# Altium footprint library CONNECTORS.PcbLib: 13 footprints
Each footprint in its own frame and in the unit in brackets; x right, y up, seen from the top. Pads: shape width x height; smd on the part's side, far side on the other; paste and mask are expansions set on the pad; w line width, h text height; cw(c..) or ccw(c..) is an arc to the next point about the centre after c.
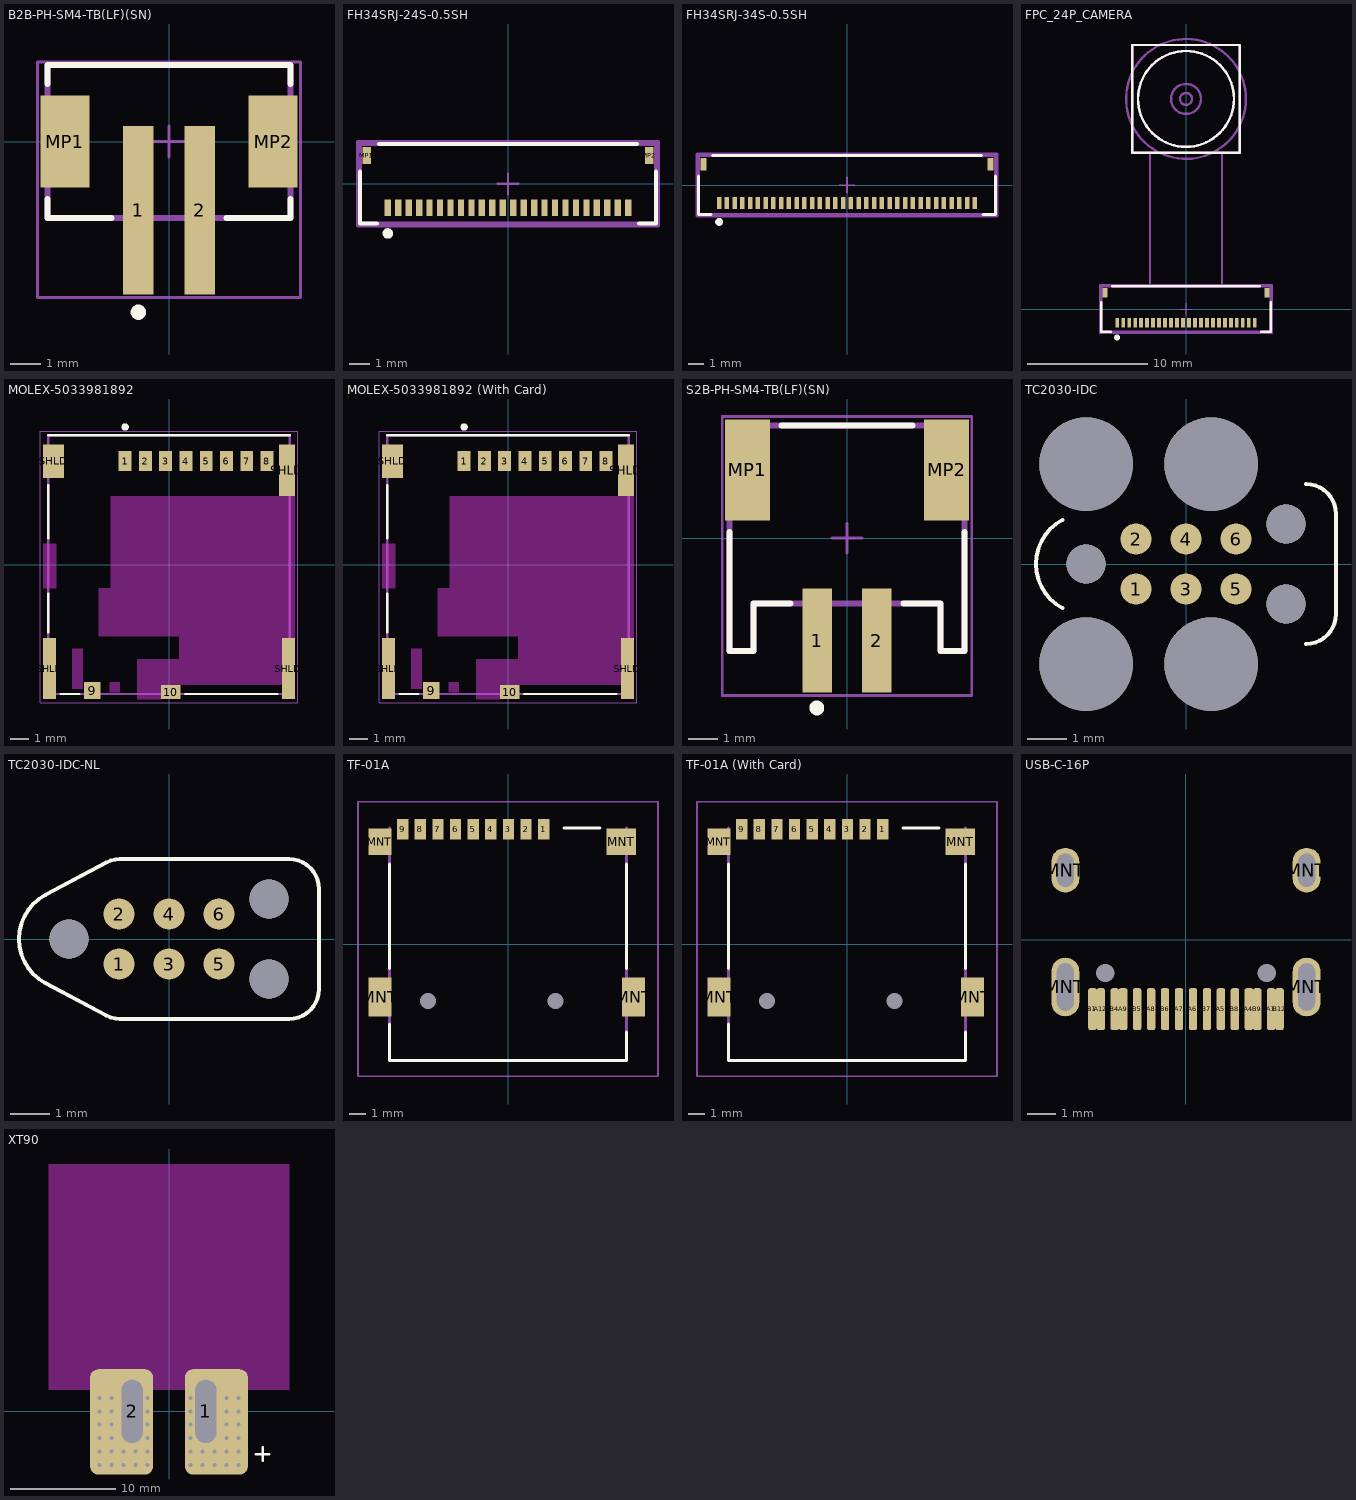
[diagram p0: the footprints below, top view; thin cyan lines are the x and y axes]

## B2B-PH-SM4-TB(LF)(SN) [mm]
pads (4):
  rect 1x5.5 smd paste+0: 1(-1,-2.25) 2(1,-2.25)
  rect 1.6x3 smd paste+0: MP1(-3.4,0) MP2(3.4,0)
Top Overlay:
  circle w0.25: c-1,-5.575 r0.125
  lines w0.2: -3.975,-1.875 -3.975,-2.5 -1.875,-2.5 ; -3.975,1.875 -3.975,2.5 3.975,2.5 3.975,1.875 ; 1.875,-2.5 3.975,-2.5 3.975,-1.875
Top 3D Body:
  lines w0.2: -3.975,-2.5 3.975,-2.5 3.975,2.5 -3.975,2.5 -3.975,-2.5
Top Courtyard:
  lines w0.1: -4.3,-5.1 4.3,-5.1 4.3,2.6 -4.3,2.6 -4.3,-5.1
Top Component Center:
  lines w0.1: -0.5,0 0.5,0 ; 0,-0.5 0,0.5
3D body "B2B-PH-SM4-TB.step": height 6.6, standoff 0, extent -3.975,-4.5 3.975,2.5

## FH34SRJ-24S-0.5SH [mm] "FH34SRJ-24S-0.5SH"
pads (26):
  rect 0.3x0.8 smd paste-1000 mask+0: 1(-5.75,-1.15) 2(-5.25,-1.15) 3(-4.75,-1.15) 4(-4.25,-1.15) 5(-3.75,-1.15) 6(-3.25,-1.15) 7(-2.75,-1.15) 8(-2.25,-1.15) 9(-1.75,-1.15) 10(-1.25,-1.15) 11(-0.75,-1.15) 12(-0.25,-1.15) 13(0.25,-1.15) 14(0.75,-1.15) 15(1.25,-1.15) 16(1.75,-1.15) 17(2.25,-1.15) 18(2.75,-1.15) 19(3.25,-1.15) 20(3.75,-1.15) 21(4.25,-1.15) 22(4.75,-1.15) 23(5.25,-1.15) 24(5.75,-1.15)
  rect 0.4x0.8 smd paste+0 mask+0: MP1(-6.75,1.35) MP2(6.75,1.35)
Top Overlay:
  circle w0.25: c-5.75,-2.375 r0.125
  lines w0.2: -7.075,0.575 -7.075,-1.9 -6.275,-1.9 ; -6.175,1.9 6.175,1.9 ; 6.275,-1.9 7.075,-1.9 7.075,0.575
Top Paste:
  region: 5.875,-0.9 5.625,-0.9 5.625,-1.55 5.875,-1.55
  region: 5.375,-0.9 5.125,-0.9 5.125,-1.55 5.375,-1.55
  region: 4.875,-0.9 4.625,-0.9 4.625,-1.55 4.875,-1.55
  region: 4.375,-0.9 4.125,-0.9 4.125,-1.55 4.375,-1.55
  region: 3.875,-0.9 3.625,-0.9 3.625,-1.55 3.875,-1.55
  region: 3.375,-0.9 3.125,-0.9 3.125,-1.55 3.375,-1.55
  region: 2.875,-0.9 2.625,-0.9 2.625,-1.55 2.875,-1.55
  region: 2.375,-0.9 2.125,-0.9 2.125,-1.55 2.375,-1.55
  region: 1.875,-0.9 1.625,-0.9 1.625,-1.55 1.875,-1.55
  region: 1.375,-0.9 1.125,-0.9 1.125,-1.55 1.375,-1.55
  region: 0.875,-0.9 0.625,-0.9 0.625,-1.55 0.875,-1.55
  region: 0.375,-0.9 0.125,-0.9 0.125,-1.55 0.375,-1.55
  region: -0.125,-0.9 -0.375,-0.9 -0.375,-1.55 -0.125,-1.55
  region: -0.625,-0.9 -0.875,-0.9 -0.875,-1.55 -0.625,-1.55
  region: -1.125,-0.9 -1.375,-0.9 -1.375,-1.55 -1.125,-1.55
  region: -1.625,-0.9 -1.875,-0.9 -1.875,-1.55 -1.625,-1.55
  region: -2.125,-0.9 -2.375,-0.9 -2.375,-1.55 -2.125,-1.55
  region: -2.625,-0.9 -2.875,-0.9 -2.875,-1.55 -2.625,-1.55
  region: -3.125,-0.9 -3.375,-0.9 -3.375,-1.55 -3.125,-1.55
  region: -3.625,-0.9 -3.875,-0.9 -3.875,-1.55 -3.625,-1.55
  region: -4.125,-0.9 -4.375,-0.9 -4.375,-1.55 -4.125,-1.55
  region: -4.625,-0.9 -4.875,-0.9 -4.875,-1.55 -4.625,-1.55
  region: -5.125,-0.9 -5.375,-0.9 -5.375,-1.55 -5.125,-1.55
  region: -5.625,-0.9 -5.875,-0.9 -5.875,-1.55 -5.625,-1.55
Top Assembly:
  lines w0.2: -7.175,-2 7.175,-2 7.175,2 -7.175,2 -7.175,-2
Top 3D Body:
  lines w0.2: -7.075,-1.9 7.075,-1.9 7.075,1.9 -7.075,1.9 -7.075,-1.9
Top Courtyard:
  lines w0.2: -7.175,-2 7.175,-2 7.175,2 -7.175,2 -7.175,-2
Top Component Center:
  lines w0.1: -0.5,0 0.5,0 ; 0,-0.5 0,0.5
3D body "Conn_Hirose_FH34SRJ-24S-0_5SH_99_eec.STEP": height 0.25, standoff 0, extent -7.175,-2 7.175,2

## FH34SRJ-34S-0.5SH [mm] "FH34SRJ-34S-0.5SH"
pads (36):
  rect 0.3x0.8 smd paste-1000 mask+0: 1(-8.25,-1.15) 2(-7.75,-1.15) 3(-7.25,-1.15) 4(-6.75,-1.15) 5(-6.25,-1.15) 6(-5.75,-1.15) 7(-5.25,-1.15) 8(-4.75,-1.15) 9(-4.25,-1.15) 10(-3.75,-1.15) 11(-3.25,-1.15) 12(-2.75,-1.15) 13(-2.25,-1.15) 14(-1.75,-1.15) 15(-1.25,-1.15) 16(-0.75,-1.15) 17(-0.25,-1.15) 18(0.25,-1.15) 19(0.75,-1.15) 20(1.25,-1.15) 21(1.75,-1.15) 22(2.25,-1.15) 23(2.75,-1.15) 24(3.25,-1.15) 25(3.75,-1.15) 26(4.25,-1.15) 27(4.75,-1.15) 28(5.25,-1.15) 29(5.75,-1.15) 30(6.25,-1.15) 31(6.75,-1.15) 32(7.25,-1.15) 33(7.75,-1.15) 34(8.25,-1.15)
  rect 0.4x0.8 smd paste+0 mask+0: MP1(-9.25,1.35) MP2(9.25,1.35)
Top Overlay:
  circle w0.25: c-8.25,-2.375 r0.125
  lines w0.2: -9.575,0.575 -9.575,-1.9 -8.775,-1.9 ; -8.675,1.9 8.675,1.9 ; 8.775,-1.9 9.575,-1.9 9.575,0.575
Top Paste:
  region: 8.375,-0.9 8.125,-0.9 8.125,-1.55 8.375,-1.55
  region: 7.875,-0.9 7.625,-0.9 7.625,-1.55 7.875,-1.55
  region: 7.375,-0.9 7.125,-0.9 7.125,-1.55 7.375,-1.55
  region: 6.875,-0.9 6.625,-0.9 6.625,-1.55 6.875,-1.55
  region: 6.375,-0.9 6.125,-0.9 6.125,-1.55 6.375,-1.55
  region: 5.875,-0.9 5.625,-0.9 5.625,-1.55 5.875,-1.55
  region: 5.375,-0.9 5.125,-0.9 5.125,-1.55 5.375,-1.55
  region: 4.875,-0.9 4.625,-0.9 4.625,-1.55 4.875,-1.55
  region: 4.375,-0.9 4.125,-0.9 4.125,-1.55 4.375,-1.55
  region: 3.875,-0.9 3.625,-0.9 3.625,-1.55 3.875,-1.55
  region: 3.375,-0.9 3.125,-0.9 3.125,-1.55 3.375,-1.55
  region: 2.875,-0.9 2.625,-0.9 2.625,-1.55 2.875,-1.55
  region: 2.375,-0.9 2.125,-0.9 2.125,-1.55 2.375,-1.55
  region: 1.875,-0.9 1.625,-0.9 1.625,-1.55 1.875,-1.55
  region: 1.375,-0.9 1.125,-0.9 1.125,-1.55 1.375,-1.55
  region: 0.875,-0.9 0.625,-0.9 0.625,-1.55 0.875,-1.55
  region: 0.375,-0.9 0.125,-0.9 0.125,-1.55 0.375,-1.55
  region: -0.125,-0.9 -0.375,-0.9 -0.375,-1.55 -0.125,-1.55
  region: -0.625,-0.9 -0.875,-0.9 -0.875,-1.55 -0.625,-1.55
  region: -1.125,-0.9 -1.375,-0.9 -1.375,-1.55 -1.125,-1.55
  region: -1.625,-0.9 -1.875,-0.9 -1.875,-1.55 -1.625,-1.55
  region: -2.125,-0.9 -2.375,-0.9 -2.375,-1.55 -2.125,-1.55
  region: -2.625,-0.9 -2.875,-0.9 -2.875,-1.55 -2.625,-1.55
  region: -3.125,-0.9 -3.375,-0.9 -3.375,-1.55 -3.125,-1.55
  region: -3.625,-0.9 -3.875,-0.9 -3.875,-1.55 -3.625,-1.55
  region: -4.125,-0.9 -4.375,-0.9 -4.375,-1.55 -4.125,-1.55
  region: -4.625,-0.9 -4.875,-0.9 -4.875,-1.55 -4.625,-1.55
  region: -5.125,-0.9 -5.375,-0.9 -5.375,-1.55 -5.125,-1.55
  region: -5.625,-0.9 -5.875,-0.9 -5.875,-1.55 -5.625,-1.55
  region: -6.125,-0.9 -6.375,-0.9 -6.375,-1.55 -6.125,-1.55
  region: -6.625,-0.9 -6.875,-0.9 -6.875,-1.55 -6.625,-1.55
  region: -7.125,-0.9 -7.375,-0.9 -7.375,-1.55 -7.125,-1.55
  region: -7.625,-0.9 -7.875,-0.9 -7.875,-1.55 -7.625,-1.55
  region: -8.125,-0.9 -8.375,-0.9 -8.375,-1.55 -8.125,-1.55
Top Assembly:
  lines w0.2: -9.675,-2 9.675,-2 9.675,2 -9.675,2 -9.675,-2
Top 3D Body:
  lines w0.2: -9.575,-1.9 9.575,-1.9 9.575,1.9 -9.575,1.9 -9.575,-1.9
Top Courtyard:
  lines w0.2: -9.675,-2 9.675,-2 9.675,2 -9.675,2 -9.675,-2
Top Component Center:
  lines w0.1: -0.5,0 0.5,0 ; 0,-0.5 0,0.5
3D body "Conn_Hirose_FH34SRJ-34S-0_5SH_99_eec.STEP": height 0.25, standoff 0, extent -9.675,-2 9.675,2

## FPC_24P_CAMERA [mm] "FH34SRJ-24S-0.5SH"
pads (26):
  rect 0.3x0.8 smd paste-1000 mask+0: 1(-5.75,-1.15) 2(-5.25,-1.15) 3(-4.75,-1.15) 4(-4.25,-1.15) 5(-3.75,-1.15) 6(-3.25,-1.15) 7(-2.75,-1.15) 8(-2.25,-1.15) 9(-1.75,-1.15) 10(-1.25,-1.15) 11(-0.75,-1.15) 12(-0.25,-1.15) 13(0.25,-1.15) 14(0.75,-1.15) 15(1.25,-1.15) 16(1.75,-1.15) 17(2.25,-1.15) 18(2.75,-1.15) 19(3.25,-1.15) 20(3.75,-1.15) 21(4.25,-1.15) 22(4.75,-1.15) 23(5.25,-1.15) 24(5.75,-1.15)
  rect 0.4x0.8 smd paste+0 mask+0: MP1(-6.75,1.35) MP2(6.75,1.35)
Top Overlay:
  circle w0.2: c0,17.526 r4
  circle w0.25: c-5.75,-2.375 r0.125
  lines w0.2: -7.075,0.575 -7.075,-1.9 -6.275,-1.9 ; -6.175,1.9 6.175,1.9 ; 6.275,-1.9 7.075,-1.9 7.075,0.575 ; -4.5,13.026 4.5,13.026 4.5,22.026 -4.5,22.026 -4.5,13.026
Top Paste:
  region: -5.625,-0.9 -5.875,-0.9 -5.875,-1.55 -5.625,-1.55
  region: -5.125,-0.9 -5.375,-0.9 -5.375,-1.55 -5.125,-1.55
  region: -4.625,-0.9 -4.875,-0.9 -4.875,-1.55 -4.625,-1.55
  region: -4.125,-0.9 -4.375,-0.9 -4.375,-1.55 -4.125,-1.55
  region: -3.625,-0.9 -3.875,-0.9 -3.875,-1.55 -3.625,-1.55
  region: -3.125,-0.9 -3.375,-0.9 -3.375,-1.55 -3.125,-1.55
  region: -2.625,-0.9 -2.875,-0.9 -2.875,-1.55 -2.625,-1.55
  region: -2.125,-0.9 -2.375,-0.9 -2.375,-1.55 -2.125,-1.55
  region: -1.625,-0.9 -1.875,-0.9 -1.875,-1.55 -1.625,-1.55
  region: -1.125,-0.9 -1.375,-0.9 -1.375,-1.55 -1.125,-1.55
  region: -0.625,-0.9 -0.875,-0.9 -0.875,-1.55 -0.625,-1.55
  region: -0.125,-0.9 -0.375,-0.9 -0.375,-1.55 -0.125,-1.55
  region: 0.375,-0.9 0.125,-0.9 0.125,-1.55 0.375,-1.55
  region: 0.875,-0.9 0.625,-0.9 0.625,-1.55 0.875,-1.55
  region: 1.375,-0.9 1.125,-0.9 1.125,-1.55 1.375,-1.55
  region: 1.875,-0.9 1.625,-0.9 1.625,-1.55 1.875,-1.55
  region: 2.375,-0.9 2.125,-0.9 2.125,-1.55 2.375,-1.55
  region: 2.875,-0.9 2.625,-0.9 2.625,-1.55 2.875,-1.55
  region: 3.375,-0.9 3.125,-0.9 3.125,-1.55 3.375,-1.55
  region: 3.875,-0.9 3.625,-0.9 3.625,-1.55 3.875,-1.55
  region: 4.375,-0.9 4.125,-0.9 4.125,-1.55 4.375,-1.55
  region: 4.875,-0.9 4.625,-0.9 4.625,-1.55 4.875,-1.55
  region: 5.375,-0.9 5.125,-0.9 5.125,-1.55 5.375,-1.55
  region: 5.875,-0.9 5.625,-0.9 5.625,-1.55 5.875,-1.55
Top Assembly:
  lines w0.2: -7.175,-2 -7.175,2 7.175,2 7.175,-2 -7.175,-2
Top 3D Body:
  circle w0.2: c0,17.526 r4
  circle w0.2: c0,17.526 r0.5
  circle w0.2: c0,17.526 r1.25
  circle w0.2: c0,17.526 r5
  lines w0.2: -3,1.9 -3,13.009 ; 3,1.9 3,13.009 ; -7.075,-1.9 -7.075,1.9 7.075,1.9 7.075,-1.9 -7.075,-1.9 ; -4.5,13.026 -4.5,22.026 4.5,22.026 4.5,13.026 -4.5,13.026
Top Courtyard:
  lines w0.2: -7.175,-2 -7.175,2 7.175,2 7.175,-2 -7.175,-2
Top Component Center:
  lines w0.1: -0.5,0 0.5,0 ; 0,-0.5 0,0.5
3D body "TY-OV2_v6.step": height 6.16, standoff 0.4, extent -6.25,-0.4 6.25,21.6
3D body "Conn_Hirose_FH34SRJ-24S-0_5SH_99_eec.STEP": height 0.25, standoff 0, extent -7.175,-2 7.175,2

## MOLEX-5033981892 [mm]
pads (14):
  rect 0.7x1.1 smd: 1(-2.38,5.625) 2(-1.28,5.625) 3(-0.18,5.625) 4(0.92,5.625) 5(2.02,5.625) 6(3.12,5.625) 7(4.22,5.625) 8(5.32,5.625)
  rect 0.9x0.93 smd: 9(-4.17,-6.84)
  rect 1.05x0.78 smd: 10(0.095,-6.915)
  rect 0.7x3.33 smd: SHLD(-6.48,-5.64) SHLD(6.48,-5.64)
  rect 1.14x1.83 smd: SHLD(-6.26,5.61)
  rect 0.86x2.8 smd: SHLD(6.4,5.125)
Top Overlay:
  circle w0.2: c-2.38,7.475 r0.1
  lines w0.127: -6.55,-3.675 -6.55,-1.575 ; -6.55,1.425 -6.55,4.325 ; -6.55,7.025 6.55,7.025 ; -5.876,-7.025 -4.874,-7.025 ; 0.874,-7.025 5.876,-7.025
Keep-Out Layer:
  region: 6.83,-3.975 6.13,-3.975 6.13,-6.525 -0.43,-6.525 -0.43,-7.305 -1.73,-7.305 -1.73,-5.125 0.57,-5.125 0.57,-3.875 -3.82,-3.875 -3.82,-1.275 -3.17,-1.275 -3.17,3.725 6.83,3.725
  region: -6.13,-1.276 -6.836,-1.276 -6.836,1.125 -6.13,1.125
  region: -4.685,-6.738 -5.245,-6.738 -5.245,-4.575 -4.685,-4.575
  region: -2.67,-6.93 -3.223,-6.93 -3.223,-6.375 -2.67,-6.375
Top 3D Body:
  circle w0.2: c-2.38,5.775 r0.1
  lines w0.127: -6.55,-7.025 6.55,-7.025 6.55,7.025 -6.55,7.025 -6.55,-7.025
Top Courtyard:
  lines w0.05: -7,-7.5 7,-7.5 7,7.25 -7,7.25 -7,-7.5
3D body "MOLEX-5033981892.step": height 1.4, standoff 0, extent -6.55,-7.025 6.55,7.045

## MOLEX-5033981892 (With Card) [mm]
pads (14):
  rect 0.7x1.1 smd: 1(-2.38,5.625) 2(-1.28,5.625) 3(-0.18,5.625) 4(0.92,5.625) 5(2.02,5.625) 6(3.12,5.625) 7(4.22,5.625) 8(5.32,5.625)
  rect 0.9x0.93 smd: 9(-4.17,-6.84)
  rect 1.05x0.78 smd: 10(0.095,-6.915)
  rect 0.7x3.33 smd: SHLD(-6.48,-5.64) SHLD(6.48,-5.64)
  rect 1.14x1.83 smd: SHLD(-6.26,5.61)
  rect 0.86x2.8 smd: SHLD(6.4,5.125)
Top Overlay:
  circle w0.2: c-2.38,7.475 r0.1
  lines w0.127: -6.55,-3.675 -6.55,-1.575 ; -6.55,1.425 -6.55,4.325 ; -6.55,7.025 6.55,7.025 ; -5.876,-7.025 -4.874,-7.025 ; 0.874,-7.025 5.876,-7.025
Keep-Out Layer:
  region: -2.67,-6.93 -3.223,-6.93 -3.223,-6.375 -2.67,-6.375
  region: -4.685,-6.738 -5.245,-6.738 -5.245,-4.575 -4.685,-4.575
  region: -6.13,-1.276 -6.836,-1.276 -6.836,1.125 -6.13,1.125
  region: 6.83,-3.975 6.13,-3.975 6.13,-6.525 -0.43,-6.525 -0.43,-7.305 -1.73,-7.305 -1.73,-5.125 0.57,-5.125 0.57,-3.875 -3.82,-3.875 -3.82,-1.275 -3.17,-1.275 -3.17,3.725 6.83,3.725
Top 3D Body:
  circle w0.2: c-2.38,5.775 r0.1
  lines w0.127: -6.55,-7.025 -6.55,7.025 6.55,7.025 6.55,-7.025 -6.55,-7.025
Top Courtyard:
  lines w0.05: -7,-7.5 -7,7.25 7,7.25 7,-7.5 -7,-7.5
3D body "Micro SD-Card.step": height 1.56, standoff 0.55, extent -4.5,-5.1 6.5,9.9
3D body "MOLEX-5033981892.step": height 1.4, standoff 0, extent -6.55,-7.025 6.55,7.045

## S2B-PH-SM4-TB(LF)(SN) [mm]
pads (4):
  rect 1x3.5 smd: 1(-1,-3.45) 2(1,-3.45)
  rect 1.5x3.4 smd: MP1(-3.35,2.3) MP2(3.35,2.3)
Top Overlay:
  circle w0.25: c-1.016,-5.715 r0.125
  lines w0.2: -3.95,0.2 -3.95,-3.8 -3.15,-3.8 -3.15,-2.2 -1.9,-2.2 ; -2.2,3.8 2.2,3.8 ; 1.9,-2.2 3.15,-2.2 3.15,-3.8 3.95,-3.8 3.95,0.2
Top 3D Body:
  lines w0.2: -3.95,-3.8 -3.95,3 -3.45,3 -3.45,3.8 3.45,3.8 3.45,3 3.95,3 3.95,-3.8 3.15,-3.8 3.15,-2.2 -3.15,-2.2 -3.15,-3.8 -3.95,-3.8
Top Courtyard:
  lines w0.1: -4.2,-5.3 -4.2,4.1 4.2,4.1 4.2,-5.3 -4.2,-5.3
Top Component Center:
  lines w0.1: -0.5,0 0.5,0 ; 0,-0.5 0,0.5
3D body "S2B-PH-SM4-TB.STEP": height 5.6, standoff 0, extent -3.95,-4.8 3.95,3.8

## TC2030-IDC [mil]
pads (13):
  round 31 smd: 1(-50,-25) 2(-50,25) 3(0,-25) 4(0,25) 5(50,-25) 6(50,25)
  round 93.5 hole 93.5 unplated: ""(-100,-100) ""(-100,100) ""(25,-100) ""(25,100)
  round 39 hole 39 unplated: ""(-100,0) ""(100,-40) ""(100,40)
Top Overlay:
  lines w3.94: -123.55,-44.11 cw(c-100,0) -123.55,44.11 ; 120.08,-79.92 ccw(c120.08,-50) 150,-50 150,50 ccw(c120.08,50) 120.08,79.92
3D body "TC2030-IDC.STEP": height 2000, standoff -185, extent -195,-192.75 195,192.75

## TC2030-IDC-NL [mil]
pads (9):
  round 31 smd: 1(-50,-25) 2(-50,25) 3(0,-25) 4(0,25) 5(50,-25) 6(50,25)
  round 39 hole 39 unplated: ""(-100,0) ""(100,-40) ""(100,40)
Top Overlay:
  lines w3.94: -124.24,-43.75 -62.95,-76.39 ccw(c-48.82,-49.92) -48.82,-79.92 120.08,-79.92 ccw(c120.08,-50) 150,-50 150,50 ccw(c120.08,50) 120.08,79.92 -48.82,79.92 ccw(c-48.82,49.92) -62.95,76.39 ; -123.55,-44.11 cw(c-100,0) -123.55,44.11 -62.26,76.74
3D body "TC2030-IDC-NL.STEP": height 2000, standoff -264, extent -195,-137.5 195,137.5

## TF-01A [mm]
pads (15):
  rect 0.7x1.3 smd: 1(2.23,7.174) 2(1.13,7.174) 3(0.03,7.174) 4(-1.07,7.174) 5(-2.17,7.174) 6(-3.27,7.174) 7(-4.37,7.174) 8(-5.47,7.174) 9(-6.57,7.174)
  rect 1.448x2.438 smd: MNT(-7.989,-3.3) MNT(7.836,-3.3)
  rect 1.448x1.651 smd: MNT(-7.989,6.4)
  rect 1.854x1.651 smd: MNT(7.061,6.4)
  round 0 hole 1 unplated: ""(-5.004,-3.531) ""(2.972,-3.531)
Top Overlay:
  lines w0.203: -7.4,-5 -7.399,-7.25 7.399,-7.263 7.4,-5.5 ; -7.4,-1.5 -7.4,5 ; 3.5,7.25 5.738,7.25 ; 7.4,-1.5 7.4,5
Top 3D Body:
  lines w0.2: -7.4,7.25 -7.4,-7.25 7.4,-7.25 7.4,7.25
Top Courtyard:
  lines w0.1: -9.36,-8.25 9.36,-8.25 9.36,8.9 -9.36,8.9 -9.36,-8.25
3D body "TF-01A.STEP": height 2, standoff -0.45, extent -8.05,-7.58 8.05,7.62

## TF-01A (With Card) [mm]
pads (15):
  rect 0.7x1.3 smd: 1(2.23,7.174) 2(1.13,7.174) 3(0.03,7.174) 4(-1.07,7.174) 5(-2.17,7.174) 6(-3.27,7.174) 7(-4.37,7.174) 8(-5.47,7.174) 9(-6.57,7.174)
  rect 1.448x2.438 smd: MNT(-7.989,-3.3) MNT(7.836,-3.3)
  rect 1.448x1.651 smd: MNT(-7.989,6.4)
  rect 1.854x1.651 smd: MNT(7.061,6.4)
  round 0 hole 1 unplated: ""(-5.004,-3.531) ""(2.972,-3.531)
Top Overlay:
  lines w0.203: -7.4,-5 -7.399,-7.25 7.399,-7.263 7.4,-5.5 ; -7.4,-1.5 -7.4,5 ; 3.5,7.25 5.738,7.25 ; 7.4,-1.5 7.4,5
Top 3D Body:
  lines w0.2: -7.4,7.25 -7.4,-7.25 7.4,-7.25 7.4,7.25
Top Courtyard:
  lines w0.1: -9.36,-8.25 -9.36,8.9 9.36,8.9 9.36,-8.25 -9.36,-8.25
3D body "TF-01A.STEP": height 2, standoff -0.45, extent -8.05,-7.58 8.05,7.62
3D body "Micro SD-Card.step": height 2, standoff 0.99, extent -6.4,-10.15 4.6,4.85

## USB-C-16P [mm] "USB 3.1 Type-C 16 Pin SMD"
pads (22):
  rrect50% 0.3x1.5 smd: A1(3.05,-2.487) A4(2.25,-2.487) A5(1.25,-2.487) A6(0.25,-2.487) A7(-0.25,-2.487) A8(-1.25,-2.487) A9(-2.25,-2.487) A12(-3.05,-2.487) B1(-3.35,-2.487) B4(-2.55,-2.487) B5(-1.75,-2.487) B6(-0.75,-2.487) B7(0.75,-2.487) B8(1.75,-2.487) B9(2.55,-2.487) B12(3.35,-2.487)
  oval 1x2.1 hole 0.6 slot 1.7 at 90 deg: MNT(-4.32,-1.692) MNT(4.32,-1.692)
  oval 1x1.6 hole 0.6 slot 1.2 at 90 deg: MNT(-4.32,2.488) MNT(4.32,2.488)
  round 0 hole 0.65 mask+0.102: ""(-2.89,-1.192) ""(2.89,-1.195)
3D body "USB-C-SMD-16P.step": height 3.2, standoff -1.27, extent -4.6,-2.797 4.6,5.153

## XT90 [mm]
pads (2):
  rrect25% 6x10 hole 2 slot 6 at 90 deg copper offset 1,-1: 1(3.5,0)
  rrect25% 6x10 hole 2 slot 6 at 90 deg copper offset -1,-1: 2(-3.5,0)
via -6.604,-5.08 diameter 0.635 hole 0.381
via -6.604,-3.81 diameter 0.635 hole 0.381
via -6.604,-2.54 diameter 0.635 hole 0.381
via -6.604,-1.27 diameter 0.635 hole 0.381
via -6.604,0 diameter 0.635 hole 0.381
via -6.604,1.27 diameter 0.635 hole 0.381
via -5.461,-5.08 diameter 0.635 hole 0.381
via -5.461,-3.81 diameter 0.635 hole 0.381
via -5.461,-2.54 diameter 0.635 hole 0.381
via -5.461,-1.27 diameter 0.635 hole 0.381
via -5.461,0 diameter 0.635 hole 0.381
via -5.461,1.27 diameter 0.635 hole 0.381
via -4.318,-5.08 diameter 0.635 hole 0.381
via -4.318,-3.81 diameter 0.635 hole 0.381
via -3.175,-5.08 diameter 0.635 hole 0.381
via -3.175,-3.81 diameter 0.635 hole 0.381
via -2.032,-5.08 diameter 0.635 hole 0.381
via -2.032,-3.81 diameter 0.635 hole 0.381
via -2.032,-2.54 diameter 0.635 hole 0.381
via -2.032,-1.27 diameter 0.635 hole 0.381
via -2.032,0 diameter 0.635 hole 0.381
via -2.032,1.27 diameter 0.635 hole 0.381
via 6.604,-5.08 diameter 0.635 hole 0.381
via 6.604,-3.81 diameter 0.635 hole 0.381
via 6.604,-2.54 diameter 0.635 hole 0.381
via 6.604,-1.27 diameter 0.635 hole 0.381
via 6.604,0 diameter 0.635 hole 0.381
via 6.604,1.27 diameter 0.635 hole 0.381
via 5.461,-5.08 diameter 0.635 hole 0.381
via 5.461,-3.81 diameter 0.635 hole 0.381
via 5.461,-2.54 diameter 0.635 hole 0.381
via 5.461,-1.27 diameter 0.635 hole 0.381
via 5.461,0 diameter 0.635 hole 0.381
via 5.461,1.27 diameter 0.635 hole 0.381
via 4.318,-5.08 diameter 0.635 hole 0.381
via 4.318,-3.81 diameter 0.635 hole 0.381
via 3.175,-5.08 diameter 0.635 hole 0.381
via 3.175,-3.81 diameter 0.635 hole 0.381
via 2.032,-5.08 diameter 0.635 hole 0.381
via 2.032,-3.81 diameter 0.635 hole 0.381
via 2.032,-2.54 diameter 0.635 hole 0.381
via 2.032,-1.27 diameter 0.635 hole 0.381
via 2.032,0 diameter 0.635 hole 0.381
via 2.032,1.27 diameter 0.635 hole 0.381
Top Overlay:
  lines w0.254: 8.255,-4.064 9.525,-4.064 ; 8.89,-4.699 8.89,-3.429
Keep-Out Layer:
  board cut-out: -11.43,2.032 11.43,2.032 11.43,23.495 -11.43,23.495
3D body "XT90 Female.STEP": height 5.4, standoff -5.3, extent -10.7,-2.114 10.7,22.886